# EAGLE library part MAX15101EWL+T (library muccc)
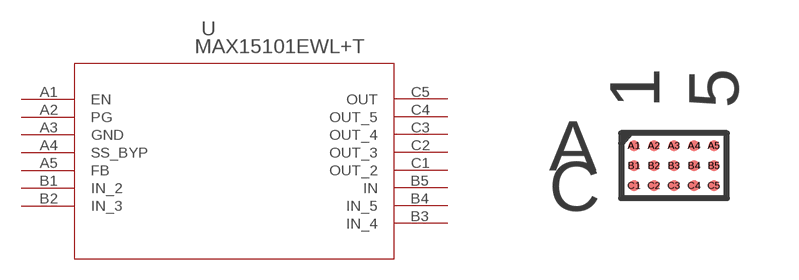
[diagram p10: symbol with the pads of 21-0205D_W151B2-1; footprint 21-0205D_W151B2-1]

Designator prefix U

## MAX15101EWL+T (MANUFACTURER_NAME: Maxim; MANUFACTURER_PART_NUMBER: MAX15101EWL+T; VENDOR: Maxim)  [21-0205D_W151B2-1]
A1  EN
A2  PG
A3  GND  pwr
A4  SS_BYP
A5  FB
B1  IN_2  in
B2  IN_3  in
B3  IN_4  in
B4  IN_5  in
B5  IN  in
C1  OUT_2  out
C2  OUT_3  out
C3  OUT_4  out
C4  OUT_5  out
C5  OUT  out

## Footprint 21-0205D_W151B2-1 (pad centres in mm)
smd 0.279 x 0.279: A1 -1,0.5; A2 -0.5,0.5; A3 0,0.5; A4 0.5,0.5; A5 1,0.5; B1 -1,0; B2 -0.5,0; B3 0,0; B4 0.5,0; B5 1,0; C1 -1,-0.5; C2 -0.5,-0.5; C3 0,-0.5; C4 0.5,-0.5; C5 1,-0.5